# Altium integrated library TI Power Management Battery Management.IntLib: 949 symbols (part 27 of 62)
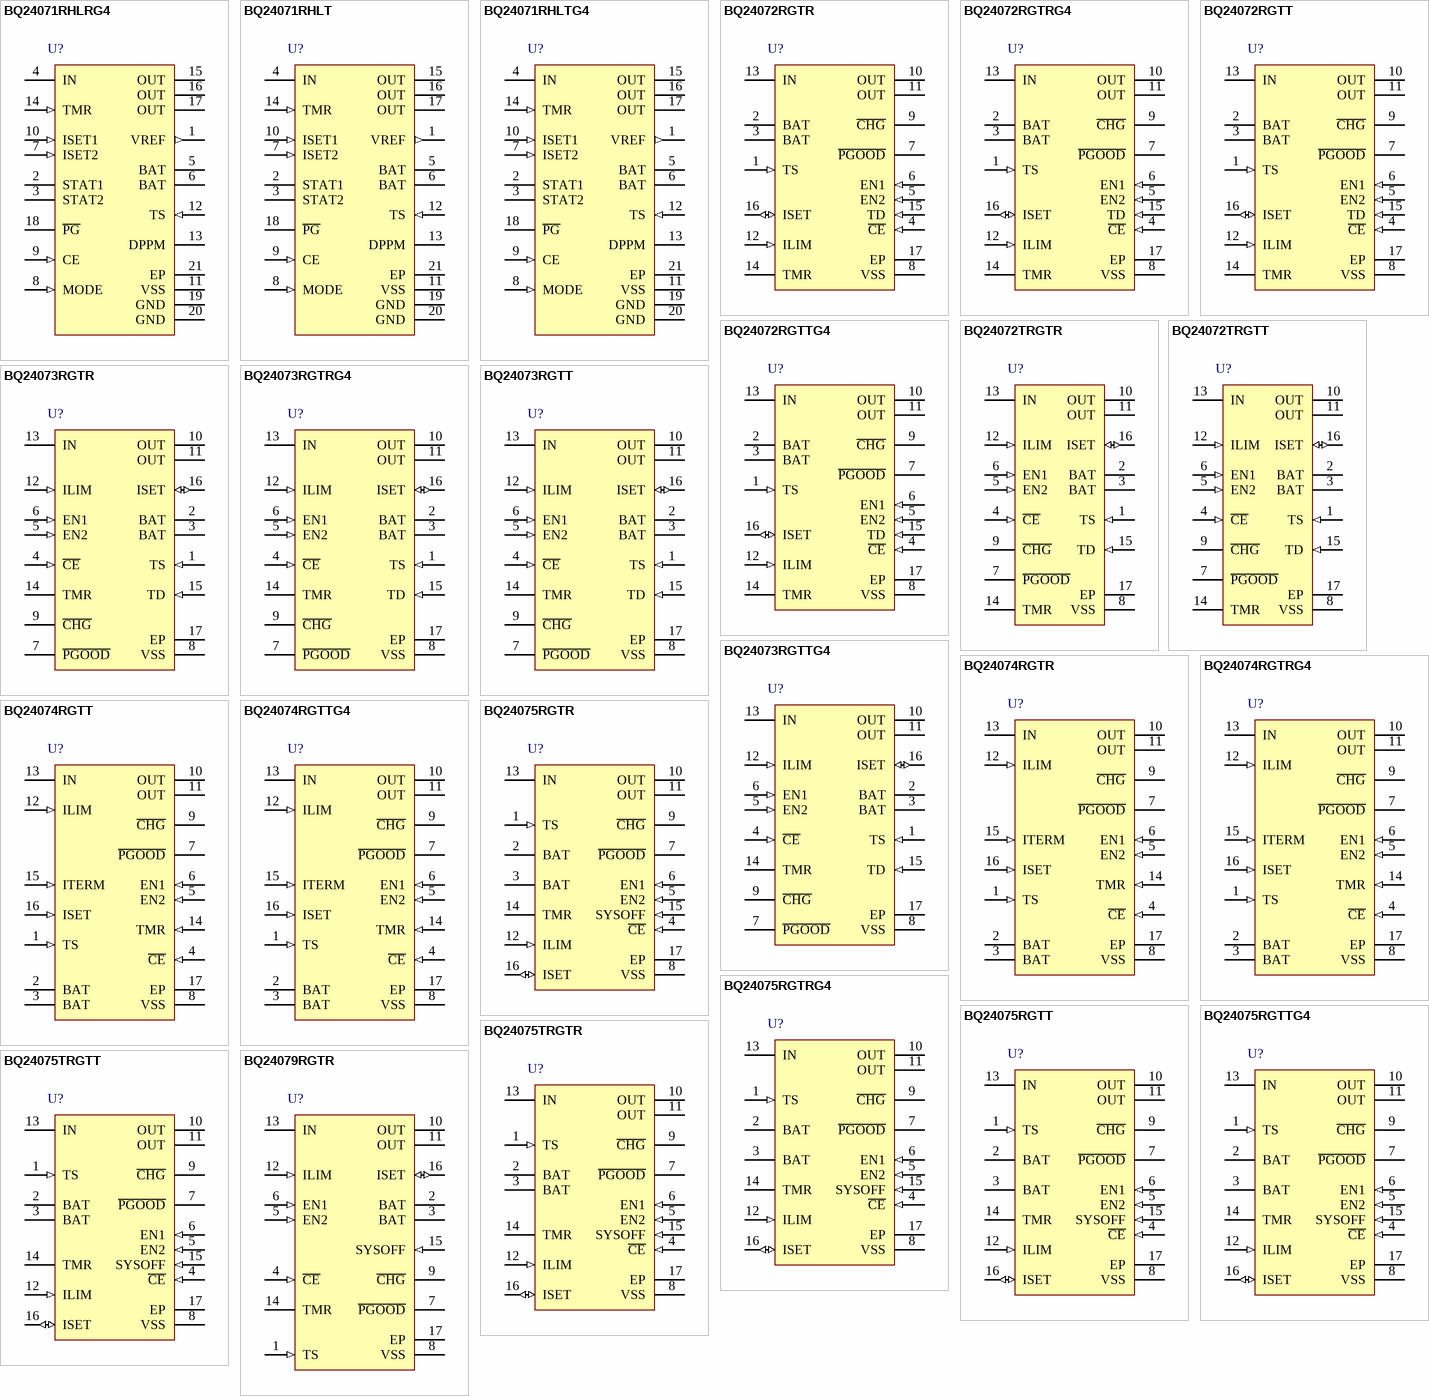
[diagram p60: symbols BQ24071RHLRG4 to BQ24079RGTR]

## BQ24075RGTRG4
designator U?
USB-Friendly Li-Ion Battery Charger and Power-Path Management IC, Vout 5.5 V, 4.3 V, -40 to 85 degC, 16-pin QFN (RGT), Green (RoHS & no Sb/Br); PartNumber: BQ24075RGTRG4; Manufacturer: Texas Instruments; Lead Acid: N; SubFamily: Battery Charge Management; Vin(Min)(V): 4.3; DatasheetVersion: SLUS810G; PackageVersion: revH, Oct-2011; PackageReference: RGT16-1700X1700TP; PackageDescription: 16-Pin Plastic Quad Flat No-Lead, 3 x 3 mm Body, 0.5 mm Pitch, 1.7 x 1.7 mm Exposed Pad; Supplier 1: Digi-Key; Supplier Part Number 1: BQ24075RGTRG4-ND; Supplier 2: Mouser; Supplier Part Number 2: 595-BQ24075RGTRG4; Eco-Plan: Green (RoHS & no Sb/Br); Li-Ion: N; Li-Polymer: N; NiCd: N; NiMH: N; Over Voltage Protection: N; Mounting Technology: Surface Mount; Code_JEDEC: MO-220; ComponentLink1Description: Datasheet; ComponentLink1URL: http://www.ti.com/general/docs/lit/getliterature.tsp?genericPartNumber=BQ24075&fileType=pdf
footprint RGT16-1700X1700TP (QFN, 16-Leads, Body 3x3mm, Pitch 0.5mm, Thermal Pad 1.7x1.7mm, TI Recommended)
pins: 1 TS (in) "External NTC Thermistor Input. Connect the TS input to the NTC thermistor in the battery pack. TS monitors a 10kohm NTC thermistor. For applications that do not utilize the TS function, connect a 10kohm fixed resistor from (See Datasheet)", 2 BAT (power) "Charge Power Stage Output and Battery Voltage Sense Input. Connect BAT to the positive terminal of the battery. Bypass BAT to VSS with a 4.7 uF to 47 uF ceramic capacitor.", 3 BAT (power) "Charge Power Stage Output and Battery Voltage Sense Input. Connect BAT to the positive terminal of the battery. Bypass BAT to VSS with a 4.7 uF to 47 uF ceramic capacitor.", 4 ~{CE} (in) "Charge Enable Active-Low Input. Connect C\E\ to a high logic level to place the battery charger in standby mode. In standby mode, OUT is active and battery supplement mode is still available. Connect C\E\ to a low logic (See Datasheet)", 5 EN2 (in) "Input Current Limit Configuration Inputs. Use EN2 control the maximum input current and enable USB compliance. See Table 2 for the description of the operation states. EN2 are internally pulled down with ?285 kohm. Do not (See Datasheet)", 6 EN1 (in) "Input Current Limit Configuration Inputs. Use EN1 control the maximum input current and enable USB compliance. See Table 2 for the description of the operation states. EN1 are internally pulled down with ?285 kohm. Do not (See Datasheet)", 7 ~{PGOOD} (hiz) "Open-drain Power Good Status Indication Output. P\G\O\O\D\ pulls to VSS when a valid input source is detected. P\G\O\O\D\ is high-impedance when the input power is not within specified limits. Connect P\G\O\O\D\ to the (See Datasheet)", 8 VSS (power) "Ground. Connect to the thermal pad and to the ground rail of the circuit.", 9 ~{CHG} (hiz) "Open-Drain Charging Status Indication Output. C\H\G\ pulls to VSS when the battery is charging. C\H\G\ is high impedance when charging is complete and when charger is disabled. Connect C\H\G\ to the desired logic voltage (See Datasheet)", 10 OUT (power) "System Supply Output. OUT provides a regulated output when the input is below the OVP threshold and above the regulation voltage. When the input is out of the operation range, OUT is connected to VBAT except when SYSOFF is (See Datasheet)", 11 OUT (power) "System Supply Output. OUT provides a regulated output when the input is below the OVP threshold and above the regulation voltage. When the input is out of the operation range, OUT is connected to VBAT except when SYSOFF is (See Datasheet)", 12 ILIM (in) "Adjustable Current Limit Programming Input. Connect a 1100 ohm to 8 kohm resistor from ILIM to VSS to program the maximum input current (EN2=1, EN1=0). The input current includes the system load and the battery charge (See Datasheet)", 13 IN (power) "Input Power Connection. Connect IN to the external DC supply (AC adapter or USB port). The input operating range is 4.35V to 6.6V (bq24072, bq24073, bq24075, and bq24079) or 4.35V to 10.5V (bq23074). The input can accept (See Datasheet)", 14 TMR "Timer Programming Input. TMR controls the pre-charge and fast-charge safety timers. Connect TMR to VSS to disable all safety timers. Connect a 18 kohm to 72 kohm resistor between TMR and VSS to program the timers a desired (See Datasheet)", 15 SYSOFF (in) "System Enable Input. Connect SYSOFF high to turn off the FET connecting the battery to the system output. When an adapter is connected, charging is also disabled. Connect SYSOFF low for normal operation. SYSOFF is internally (See Datasheet)", 16 ISET (io) "Fast Charge Current Programming Input. Connect a 590 ohm to 3 kohm resistor from ISET to VSS to program the fast charge current level. Charging is disabled if ISET is left unconnected. While charging, the voltage at ISET (See Datasheet)", 17 EP (power) "There is an internal electrical connection between the exposed thermal pad and the VSS pin of the device. The thermal pad must be connected to the same potential as the VSS pin on the printed circuit board. Do not use the (See Datasheet)"

## BQ24075RGTT
designator U?
USB-Friendly Li-Ion Battery Charger and Power-Path Management IC, Vout 5.5 V, 4.3 V, -40 to 85 degC, 16-pin QFN (RGT), Green (RoHS & no Sb/Br); PartNumber: BQ24075RGTT; Manufacturer: Texas Instruments; Lead Acid: N; SubFamily: Battery Charge Management; Vin(Min)(V): 4.3; DatasheetVersion: SLUS810G; PackageVersion: revH, Oct-2011; PackageReference: RGT16-1700X1700TP; PackageDescription: 16-Pin Plastic Quad Flat No-Lead, 3 x 3 mm Body, 0.5 mm Pitch, 1.7 x 1.7 mm Exposed Pad; Supplier 1: Digi-Key; Supplier Part Number 1: 296-23840-2-ND; Supplier 2: Digi-Key; Supplier Part Number 2: 296-23840-1-ND; Supplier 3: Digi-Key; Supplier Part Number 3: 296-23840-6-ND; Supplier 4: Farnell; Supplier Part Number 4: 1754755; Supplier 5: Newark; Supplier Part Number 5: 31P7536; Supplier 6: Mouser; Supplier Part Number 6: 595-BQ24075RGTT; Eco-Plan: Green (RoHS & no Sb/Br); Li-Ion: N; Li-Polymer: N; NiCd: N; NiMH: N; Over Voltage Protection: N; Mounting Technology: Surface Mount; Code_JEDEC: MO-220; ComponentLink1Description: Datasheet; ComponentLink1URL: http://www.ti.com/general/docs/lit/getliterature.tsp?genericPartNumber=BQ24075&fileType=pdf
footprint RGT16-1700X1700TP (QFN, 16-Leads, Body 3x3mm, Pitch 0.5mm, Thermal Pad 1.7x1.7mm, TI Recommended)
pins: 1 TS (in) "External NTC Thermistor Input. Connect the TS input to the NTC thermistor in the battery pack. TS monitors a 10kohm NTC thermistor. For applications that do not utilize the TS function, connect a 10kohm fixed resistor from (See Datasheet)", 2 BAT (power) "Charge Power Stage Output and Battery Voltage Sense Input. Connect BAT to the positive terminal of the battery. Bypass BAT to VSS with a 4.7 uF to 47 uF ceramic capacitor.", 3 BAT (power) "Charge Power Stage Output and Battery Voltage Sense Input. Connect BAT to the positive terminal of the battery. Bypass BAT to VSS with a 4.7 uF to 47 uF ceramic capacitor.", 4 ~{CE} (in) "Charge Enable Active-Low Input. Connect C\E\ to a high logic level to place the battery charger in standby mode. In standby mode, OUT is active and battery supplement mode is still available. Connect C\E\ to a low logic (See Datasheet)", 5 EN2 (in) "Input Current Limit Configuration Inputs. Use EN2 control the maximum input current and enable USB compliance. See Table 2 for the description of the operation states. EN2 are internally pulled down with ?285 kohm. Do not (See Datasheet)", 6 EN1 (in) "Input Current Limit Configuration Inputs. Use EN1 control the maximum input current and enable USB compliance. See Table 2 for the description of the operation states. EN1 are internally pulled down with ?285 kohm. Do not (See Datasheet)", 7 ~{PGOOD} (hiz) "Open-drain Power Good Status Indication Output. P\G\O\O\D\ pulls to VSS when a valid input source is detected. P\G\O\O\D\ is high-impedance when the input power is not within specified limits. Connect P\G\O\O\D\ to the (See Datasheet)", 8 VSS (power) "Ground. Connect to the thermal pad and to the ground rail of the circuit.", 9 ~{CHG} (hiz) "Open-Drain Charging Status Indication Output. C\H\G\ pulls to VSS when the battery is charging. C\H\G\ is high impedance when charging is complete and when charger is disabled. Connect C\H\G\ to the desired logic voltage (See Datasheet)", 10 OUT (power) "System Supply Output. OUT provides a regulated output when the input is below the OVP threshold and above the regulation voltage. When the input is out of the operation range, OUT is connected to VBAT except when SYSOFF is (See Datasheet)", 11 OUT (power) "System Supply Output. OUT provides a regulated output when the input is below the OVP threshold and above the regulation voltage. When the input is out of the operation range, OUT is connected to VBAT except when SYSOFF is (See Datasheet)", 12 ILIM (in) "Adjustable Current Limit Programming Input. Connect a 1100 ohm to 8 kohm resistor from ILIM to VSS to program the maximum input current (EN2=1, EN1=0). The input current includes the system load and the battery charge (See Datasheet)", 13 IN (power) "Input Power Connection. Connect IN to the external DC supply (AC adapter or USB port). The input operating range is 4.35V to 6.6V (bq24072, bq24073, bq24075, and bq24079) or 4.35V to 10.5V (bq23074). The input can accept (See Datasheet)", 14 TMR "Timer Programming Input. TMR controls the pre-charge and fast-charge safety timers. Connect TMR to VSS to disable all safety timers. Connect a 18 kohm to 72 kohm resistor between TMR and VSS to program the timers a desired (See Datasheet)", 15 SYSOFF (in) "System Enable Input. Connect SYSOFF high to turn off the FET connecting the battery to the system output. When an adapter is connected, charging is also disabled. Connect SYSOFF low for normal operation. SYSOFF is internally (See Datasheet)", 16 ISET (io) "Fast Charge Current Programming Input. Connect a 590 ohm to 3 kohm resistor from ISET to VSS to program the fast charge current level. Charging is disabled if ISET is left unconnected. While charging, the voltage at ISET (See Datasheet)", 17 EP (power) "There is an internal electrical connection between the exposed thermal pad and the VSS pin of the device. The thermal pad must be connected to the same potential as the VSS pin on the printed circuit board. Do not use the (See Datasheet)"

## BQ24075RGTTG4
designator U?
USB-Friendly Li-Ion Battery Charger and Power-Path Management IC, Vout 5.5 V, 4.3 V, -40 to 85 degC, 16-pin QFN (RGT), Green (RoHS & no Sb/Br); PartNumber: BQ24075RGTTG4; Manufacturer: Texas Instruments; Lead Acid: N; SubFamily: Battery Charge Management; Vin(Min)(V): 4.3; DatasheetVersion: SLUS810G; PackageVersion: revH, Oct-2011; PackageReference: RGT16-1700X1700TP; PackageDescription: 16-Pin Plastic Quad Flat No-Lead, 3 x 3 mm Body, 0.5 mm Pitch, 1.7 x 1.7 mm Exposed Pad; Supplier 1: Digi-Key; Supplier Part Number 1: BQ24075RGTTG4-ND; Supplier 2: Mouser; Supplier Part Number 2: 595-BQ24075RGTTG4; Eco-Plan: Green (RoHS & no Sb/Br); Li-Ion: N; Li-Polymer: N; NiCd: N; NiMH: N; Over Voltage Protection: N; Mounting Technology: Surface Mount; Code_JEDEC: MO-220; ComponentLink1Description: Datasheet; ComponentLink1URL: http://www.ti.com/general/docs/lit/getliterature.tsp?genericPartNumber=BQ24075&fileType=pdf
footprint RGT16-1700X1700TP (QFN, 16-Leads, Body 3x3mm, Pitch 0.5mm, Thermal Pad 1.7x1.7mm, TI Recommended)
pins: 1 TS (in) "External NTC Thermistor Input. Connect the TS input to the NTC thermistor in the battery pack. TS monitors a 10kohm NTC thermistor. For applications that do not utilize the TS function, connect a 10kohm fixed resistor from (See Datasheet)", 2 BAT (power) "Charge Power Stage Output and Battery Voltage Sense Input. Connect BAT to the positive terminal of the battery. Bypass BAT to VSS with a 4.7 uF to 47 uF ceramic capacitor.", 3 BAT (power) "Charge Power Stage Output and Battery Voltage Sense Input. Connect BAT to the positive terminal of the battery. Bypass BAT to VSS with a 4.7 uF to 47 uF ceramic capacitor.", 4 ~{CE} (in) "Charge Enable Active-Low Input. Connect C\E\ to a high logic level to place the battery charger in standby mode. In standby mode, OUT is active and battery supplement mode is still available. Connect C\E\ to a low logic (See Datasheet)", 5 EN2 (in) "Input Current Limit Configuration Inputs. Use EN2 control the maximum input current and enable USB compliance. See Table 2 for the description of the operation states. EN2 are internally pulled down with ?285 kohm. Do not (See Datasheet)", 6 EN1 (in) "Input Current Limit Configuration Inputs. Use EN1 control the maximum input current and enable USB compliance. See Table 2 for the description of the operation states. EN1 are internally pulled down with ?285 kohm. Do not (See Datasheet)", 7 ~{PGOOD} (hiz) "Open-drain Power Good Status Indication Output. P\G\O\O\D\ pulls to VSS when a valid input source is detected. P\G\O\O\D\ is high-impedance when the input power is not within specified limits. Connect P\G\O\O\D\ to the (See Datasheet)", 8 VSS (power) "Ground. Connect to the thermal pad and to the ground rail of the circuit.", 9 ~{CHG} (hiz) "Open-Drain Charging Status Indication Output. C\H\G\ pulls to VSS when the battery is charging. C\H\G\ is high impedance when charging is complete and when charger is disabled. Connect C\H\G\ to the desired logic voltage (See Datasheet)", 10 OUT (power) "System Supply Output. OUT provides a regulated output when the input is below the OVP threshold and above the regulation voltage. When the input is out of the operation range, OUT is connected to VBAT except when SYSOFF is (See Datasheet)", 11 OUT (power) "System Supply Output. OUT provides a regulated output when the input is below the OVP threshold and above the regulation voltage. When the input is out of the operation range, OUT is connected to VBAT except when SYSOFF is (See Datasheet)", 12 ILIM (in) "Adjustable Current Limit Programming Input. Connect a 1100 ohm to 8 kohm resistor from ILIM to VSS to program the maximum input current (EN2=1, EN1=0). The input current includes the system load and the battery charge (See Datasheet)", 13 IN (power) "Input Power Connection. Connect IN to the external DC supply (AC adapter or USB port). The input operating range is 4.35V to 6.6V (bq24072, bq24073, bq24075, and bq24079) or 4.35V to 10.5V (bq23074). The input can accept (See Datasheet)", 14 TMR "Timer Programming Input. TMR controls the pre-charge and fast-charge safety timers. Connect TMR to VSS to disable all safety timers. Connect a 18 kohm to 72 kohm resistor between TMR and VSS to program the timers a desired (See Datasheet)", 15 SYSOFF (in) "System Enable Input. Connect SYSOFF high to turn off the FET connecting the battery to the system output. When an adapter is connected, charging is also disabled. Connect SYSOFF low for normal operation. SYSOFF is internally (See Datasheet)", 16 ISET (io) "Fast Charge Current Programming Input. Connect a 590 ohm to 3 kohm resistor from ISET to VSS to program the fast charge current level. Charging is disabled if ISET is left unconnected. While charging, the voltage at ISET (See Datasheet)", 17 EP (power) "There is an internal electrical connection between the exposed thermal pad and the VSS pin of the device. The thermal pad must be connected to the same potential as the VSS pin on the printed circuit board. Do not use the (See Datasheet)"

## BQ24075TRGTR
designator U?
1.5 A USB-Friendly Li-Ion Battery Charger and Power-Path Management IC with 4.2 VBAT, 4.3 V, -40 to 85 degC, 16-pin QFN (RGT), Green (RoHS & no Sb/Br); PartNumber: BQ24075TRGTR; Manufacturer: Texas Instruments; Lead Acid: N; SubFamily: Battery Charge Management; Vin(Min)(V): 4.3; DatasheetVersion: SLUS937A; PackageVersion: revH, Oct-2011; PackageReference: RGT16-1700X1700TP; PackageDescription: 16-Pin Plastic Quad Flat No-Lead, 3 x 3 mm Body, 0.5 mm Pitch, 1.7 x 1.7 mm Exposed Pad; Supplier 1: Digi-Key; Supplier Part Number 1: 296-25609-2-ND; Supplier 2: Digi-Key; Supplier Part Number 2: 296-25609-1-ND; Supplier 3: Digi-Key; Supplier Part Number 3: 296-25609-6-ND; Supplier 4: Newark; Supplier Part Number 4: 63R9855; Supplier 5: Mouser; Supplier Part Number 5: 595-BQ24075TRGTR; Eco-Plan: Green (RoHS & no Sb/Br); Li-Ion: N; Li-Polymer: N; NiCd: N; NiMH: N; Over Voltage Protection: N; Mounting Technology: Surface Mount; Code_JEDEC: MO-220; ComponentLink1Description: Datasheet; ComponentLink1URL: http://www.ti.com/general/docs/lit/getliterature.tsp?genericPartNumber=BQ24075T&fileType=pdf
footprint RGT16-1700X1700TP (QFN, 16-Leads, Body 3x3mm, Pitch 0.5mm, Thermal Pad 1.7x1.7mm, TI Recommended)
pins: 1 TS (in) "External NTC Thermistor Input. Connect the TS input to the center tap of a resistor divider from VIN to GND with the NTC in parallel with the bottom resistor to monitor the NTC in the battery pack. For applications that do (See Datasheet)", 2 BAT (power) "Charger Power Stage Output and Battery Voltage Sense Input. Connect BAT to the positive terminal of the battery. Bypass BAT to VSS with a 4.7uF to 47uF ceramic capacitor.", 3 BAT (power) "Charger Power Stage Output and Battery Voltage Sense Input. Connect BAT to the positive terminal of the battery. Bypass BAT to VSS with a 4.7uF to 47uF ceramic capacitor.", 4 ~{CE} (in) "Charge Enable Active-Low Input. Connect C\E\ to a high logic level to place the battery charger in standby mode. In standby mode, OUT is active and battery supplement mode is available. Connect /CE to a low logic level to (See Datasheet)", 5 EN2 (in) "Input Current Limit Configuration Inputs. Use EN1 and En2 to control the maximum input current and enable USB compliance. See Table 1 for the description of the operation states EN1 and EN2 are internally pulled down with (See Datasheet)", 6 EN1 (in) "Input Current Limit Configuration Inputs. Use EN1 and En2 to control the maximum input current and enable USB compliance. See Table 1 for the description of the operation states EN1 and EN2 are internally pulled down with (See Datasheet)", 7 ~{PGOOD} (hiz) "Open-Drain Power Good Status Indication Output. P\G\O\O\D\ pulls to VSS when a valid input source is detected. P\G\O\O\D\ is high-impedance when the input power is not within specified limits. Connect P\G\O\O\D\ to the (See Datasheet)", 8 VSS (power) "Ground. Connect to the thermal pad and to the ground rail of the circuit.", 9 ~{CHG} (hiz) "Open-Drain Charging Status Indication Output. C\H\G\ pulls to VSS when the battery is charging. C\H\G\ is high-impedance when charging is complete or when the charger is disabled. C\H\G\ flashes to indicate a timer fault. (See Datasheet)", 10 OUT (power) "System Supply Output. OUT provides a regulated output when the input is below the OVP threshold and above the regulation voltage. When the input is out of the operation range, OUT is connected to VBAT except when SYSOFF is (See Datasheet)", 11 OUT (power) "System Supply Output. OUT provides a regulated output when the input is below the OVP threshold and above the regulation voltage. When the input is out of the operation range, OUT is connected to VBAT except when SYSOFF is (See Datasheet)", 12 ILIM (in) "Adjustable Current Limit Programming Input. Connect a 1.07 k ohm to 7.5 k ohm resistor from ILIM to VSS to program the maximum input current (EN2=1, EN1=0). The input current includes the system load and the battery charge (See Datasheet)", 13 IN (power) "Input Power Connection. Connect IN to the external DC supply (AC adapter or USB port). The input operating range is 4.35V to 6.6V. The input accepts voltages up to 26V without damage, but operation is suspended. Bypass IN to (See Datasheet)", 14 TMR "Timer Programming Input. TMR controls the pre-charge and fast-charge safety timers.Connect TMR to VSS to disable all safety timers. Connect a 18k ohm to 72k ohm resistor between TMR and VSS to program the timers to a desired (See Datasheet)", 15 SYSOFF (in) "System Enable Input. Connect SYSOFF high to turn off the FET connecting the battery to the system output. When an adapter is connected, charge is also disabled. Connect SYSOFF low for normal operation. SYSOFF is internally (See Datasheet)", 16 ISET (io) "Fast Charge Current Programming Input. Connect a 590 ohm to 3 k ohm resistor from ISET to VSS to program the fast charge current level. Charging is disabled if ISET is left unconnected. While charging, the voltage ISET (See Datasheet)", 17 EP (power) "There is an internal electrical connection between the exposed thermal pad and the VSS pin of the device. The thermal pad must be connected to the same potential as the VSS pin on the printed circuit board. Do not use the (See Datasheet)"

## BQ24075TRGTT
designator U?
1.5 A USB-Friendly Li-Ion Battery Charger and Power-Path Management IC with 4.2 VBAT, 4.3 V, -40 to 85 degC, 16-pin QFN (RGT), Green (RoHS & no Sb/Br); PartNumber: BQ24075TRGTT; Manufacturer: Texas Instruments; Lead Acid: N; SubFamily: Battery Charge Management; Vin(Min)(V): 4.3; DatasheetVersion: SLUS937A; PackageVersion: revH, Oct-2011; PackageReference: RGT16-1700X1700TP; PackageDescription: 16-Pin Plastic Quad Flat No-Lead, 3 x 3 mm Body, 0.5 mm Pitch, 1.7 x 1.7 mm Exposed Pad; Supplier 1: Digi-Key; Supplier Part Number 1: 296-32025-2-ND; Supplier 2: Digi-Key; Supplier Part Number 2: 296-32025-1-ND; Supplier 3: Digi-Key; Supplier Part Number 3: 296-32025-6-ND; Supplier 4: Newark; Supplier Part Number 4: 63R9856; Supplier 5: Mouser; Supplier Part Number 5: 595-BQ24075TRGTT; Eco-Plan: Green (RoHS & no Sb/Br); Li-Ion: N; Li-Polymer: N; NiCd: N; NiMH: N; Over Voltage Protection: N; Mounting Technology: Surface Mount; Code_JEDEC: MO-220; ComponentLink1Description: Datasheet; ComponentLink1URL: http://www.ti.com/general/docs/lit/getliterature.tsp?genericPartNumber=BQ24075T&fileType=pdf
footprint RGT16-1700X1700TP (QFN, 16-Leads, Body 3x3mm, Pitch 0.5mm, Thermal Pad 1.7x1.7mm, TI Recommended)
pins: 1 TS (in) "External NTC Thermistor Input. Connect the TS input to the center tap of a resistor divider from VIN to GND with the NTC in parallel with the bottom resistor to monitor the NTC in the battery pack. For applications that do (See Datasheet)", 2 BAT (power) "Charger Power Stage Output and Battery Voltage Sense Input. Connect BAT to the positive terminal of the battery. Bypass BAT to VSS with a 4.7uF to 47uF ceramic capacitor.", 3 BAT (power) "Charger Power Stage Output and Battery Voltage Sense Input. Connect BAT to the positive terminal of the battery. Bypass BAT to VSS with a 4.7uF to 47uF ceramic capacitor.", 4 ~{CE} (in) "Charge Enable Active-Low Input. Connect C\E\ to a high logic level to place the battery charger in standby mode. In standby mode, OUT is active and battery supplement mode is available. Connect /CE to a low logic level to (See Datasheet)", 5 EN2 (in) "Input Current Limit Configuration Inputs. Use EN1 and En2 to control the maximum input current and enable USB compliance. See Table 1 for the description of the operation states EN1 and EN2 are internally pulled down with (See Datasheet)", 6 EN1 (in) "Input Current Limit Configuration Inputs. Use EN1 and En2 to control the maximum input current and enable USB compliance. See Table 1 for the description of the operation states EN1 and EN2 are internally pulled down with (See Datasheet)", 7 ~{PGOOD} (hiz) "Open-Drain Power Good Status Indication Output. P\G\O\O\D\ pulls to VSS when a valid input source is detected. P\G\O\O\D\ is high-impedance when the input power is not within specified limits. Connect P\G\O\O\D\ to the (See Datasheet)", 8 VSS (power) "Ground. Connect to the thermal pad and to the ground rail of the circuit.", 9 ~{CHG} (hiz) "Open-Drain Charging Status Indication Output. C\H\G\ pulls to VSS when the battery is charging. C\H\G\ is high-impedance when charging is complete or when the charger is disabled. C\H\G\ flashes to indicate a timer fault. (See Datasheet)", 10 OUT (power) "System Supply Output. OUT provides a regulated output when the input is below the OVP threshold and above the regulation voltage. When the input is out of the operation range, OUT is connected to VBAT except when SYSOFF is (See Datasheet)", 11 OUT (power) "System Supply Output. OUT provides a regulated output when the input is below the OVP threshold and above the regulation voltage. When the input is out of the operation range, OUT is connected to VBAT except when SYSOFF is (See Datasheet)", 12 ILIM (in) "Adjustable Current Limit Programming Input. Connect a 1.07 k ohm to 7.5 k ohm resistor from ILIM to VSS to program the maximum input current (EN2=1, EN1=0). The input current includes the system load and the battery charge (See Datasheet)", 13 IN (power) "Input Power Connection. Connect IN to the external DC supply (AC adapter or USB port). The input operating range is 4.35V to 6.6V. The input accepts voltages up to 26V without damage, but operation is suspended. Bypass IN to (See Datasheet)", 14 TMR "Timer Programming Input. TMR controls the pre-charge and fast-charge safety timers.Connect TMR to VSS to disable all safety timers. Connect a 18k ohm to 72k ohm resistor between TMR and VSS to program the timers to a desired (See Datasheet)", 15 SYSOFF (in) "System Enable Input. Connect SYSOFF high to turn off the FET connecting the battery to the system output. When an adapter is connected, charge is also disabled. Connect SYSOFF low for normal operation. SYSOFF is internally (See Datasheet)", 16 ISET (io) "Fast Charge Current Programming Input. Connect a 590 ohm to 3 k ohm resistor from ISET to VSS to program the fast charge current level. Charging is disabled if ISET is left unconnected. While charging, the voltage ISET (See Datasheet)", 17 EP (power) "There is an internal electrical connection between the exposed thermal pad and the VSS pin of the device. The thermal pad must be connected to the same potential as the VSS pin on the printed circuit board. Do not use the (See Datasheet)"

## BQ24079RGTR
designator U?
1.2 A USB-Friendly Li-Ion Battery Charger and Power-Path Management IC with 4.1 VBAT, 4.3 V, -40 to 85 degC, 16-pin QFN (RGT), Green (RoHS & no Sb/Br); PartNumber: BQ24079RGTR; Manufacturer: Texas Instruments; Lead Acid: N; SubFamily: Battery Charge Management; Vin(Min)(V): 4.3; DatasheetVersion: SLUS810G; PackageVersion: revH, Oct-2011; PackageReference: RGT16-1700X1700TP; PackageDescription: 16-Pin Plastic Quad Flat No-Lead, 3 x 3 mm Body, 0.5 mm Pitch, 1.7 x 1.7 mm Exposed Pad; Supplier 1: Digi-Key; Supplier Part Number 1: 296-24815-2-ND; Supplier 2: Digi-Key; Supplier Part Number 2: 296-24815-1-ND; Supplier 3: Digi-Key; Supplier Part Number 3: 296-24815-6-ND; Supplier 4: Newark; Supplier Part Number 4: 25R0426; Supplier 5: Mouser; Supplier Part Number 5: 595-BQ24079RGTR; Eco-Plan: Green (RoHS & no Sb/Br); Li-Ion: N; Li-Polymer: N; NiCd: N; NiMH: N; Over Voltage Protection: N; Mounting Technology: Surface Mount; Code_JEDEC: MO-220; ComponentLink1Description: Datasheet; ComponentLink1URL: http://www.ti.com/general/docs/lit/getliterature.tsp?genericPartNumber=BQ24079&fileType=pdf
footprint RGT16-1700X1700TP (QFN, 16-Leads, Body 3x3mm, Pitch 0.5mm, Thermal Pad 1.7x1.7mm, TI Recommended)
pins: 1 TS (in) "External NTC Thermistor Input. Connect the TS input to the NTC thermistor in the battery pack. TS monitors a 10k ohm NTC thermistor. For applications that do not utilize the TS function, connect a 10k ohm fixed resistor from (See Datasheet)", 2 BAT (power) "Charger Power Stage Output and Battery Voltage Sense Input. Connect BAT to the positive terminal of the battery. Bypass BAT to VSS with a 4.7  uF to 47  uF ceramic capacitor.", 3 BAT (power) "Charger Power Stage Output and Battery Voltage Sense Input. Connect BAT to the positive terminal of the battery. Bypass BAT to VSS with a 4.7  uF to 47  uF ceramic capacitor.", 4 ~{CE} (in) "Charge Enable Active-Low Input. Connect C\E\ to a high logic level to place the battery charger in standby mode. In standby mode, OUT is active and battery supplement mode is still available. Connect C\E\ to a low logic (See Datasheet)", 5 EN2 (in) "Input Current Limit Configuration Inputs. Use EN2 control the maximum input current and enable USB compliance. See Table 2 for the description of the operation states. EN2 is internally pulled down with ?285 k ohm. Do not (See Datasheet)", 6 EN1 (in) "Input Current Limit Configuration Inputs. Use EN1 control the maximum input current and enable USB compliance. See Table 2 for the description of the operation states. EN1 is internally pulled down with ?285 k ohm. Do not (See Datasheet)", 7 ~{PGOOD} (hiz) "Open-drain Power Good Status Indication Output. P\G\O\O\D\ pulls to VSS when a valid input source is detected. P\G\O\O\D\ is high-impedance when the input power is not within specified limits. Connect P\G\O\O\D\ to the (See Datasheet)", 8 VSS (power) "Ground. Connect to the thermal pad and to the ground rail of the circuit.", 9 ~{CHG} (hiz) "Open-Drain Charging Status Indication Output. C\H\G\ pulls to VSS when the battery is charging. C\H\G\ is high impedance when charging is complete and when charger is disabled. Connect C\H\G\ to the desired logic voltage (See Datasheet)", 10 OUT (power) "System Supply Output. OUT provides a regulated output when the input is below the OVP threshold and above the regulation voltage. When the input is out of the operation range, OUT is connected to VBAT except when SYSOFF is (See Datasheet)", 11 OUT (power) "System Supply Output. OUT provides a regulated output when the input is below the OVP threshold and above the regulation voltage. When the input is out of the operation range, OUT is connected to VBAT except when SYSOFF is (See Datasheet)", 12 ILIM (in) "Adjustable Current Limit Programming Input. Connect a 1100 Ohm to 8 k ohm resistor from ILIM to VSS to program the maximum input current (EN2=1, EN1=0). The input current includes the system load and the battery charge (See Datasheet)", 13 IN (power) "Input Power Connection. Connect IN to the external DC supply (AC adapter or USB port). The input operating range is 4.35V to 6.6V (bq24072, bq24073, bq24075, and bq24079) or 4.35V to 10.5V (bq23074). The input can accept (See Datasheet)", 14 TMR "Timer Programming Input. TMR controls the pre-charge and fast-charge safety timers. Connect TMR to VSS to disable all safety timers. Connect a 18 k ohm to 72 k ohm resistor between TMR and VSS to program the timers a desired (See Datasheet)", 15 SYSOFF (in) "System Enable Input. Connect SYSOFF high to turn off the FET connecting the battery to the system output. When an adapter is connected, charging is also disabled. Connect SYSOFF low for normal operation. SYSOFF is internally (See Datasheet)", 16 ISET (io) "Fast Charge Current Programming Input. Connect a 590 Ohm to 3 k ohm resistor from ISET to VSS to program the fast charge current level. Charging is disabled if ISET is left unconnected. While charging, the voltage at ISET (See Datasheet)", 17 EP (power) "There is an internal electrical connection between the exposed thermal pad and the VSS pin of the device. The thermal pad must be connected to the same potential as the VSS pin on the printed circuit board. Do not use the (See Datasheet)"

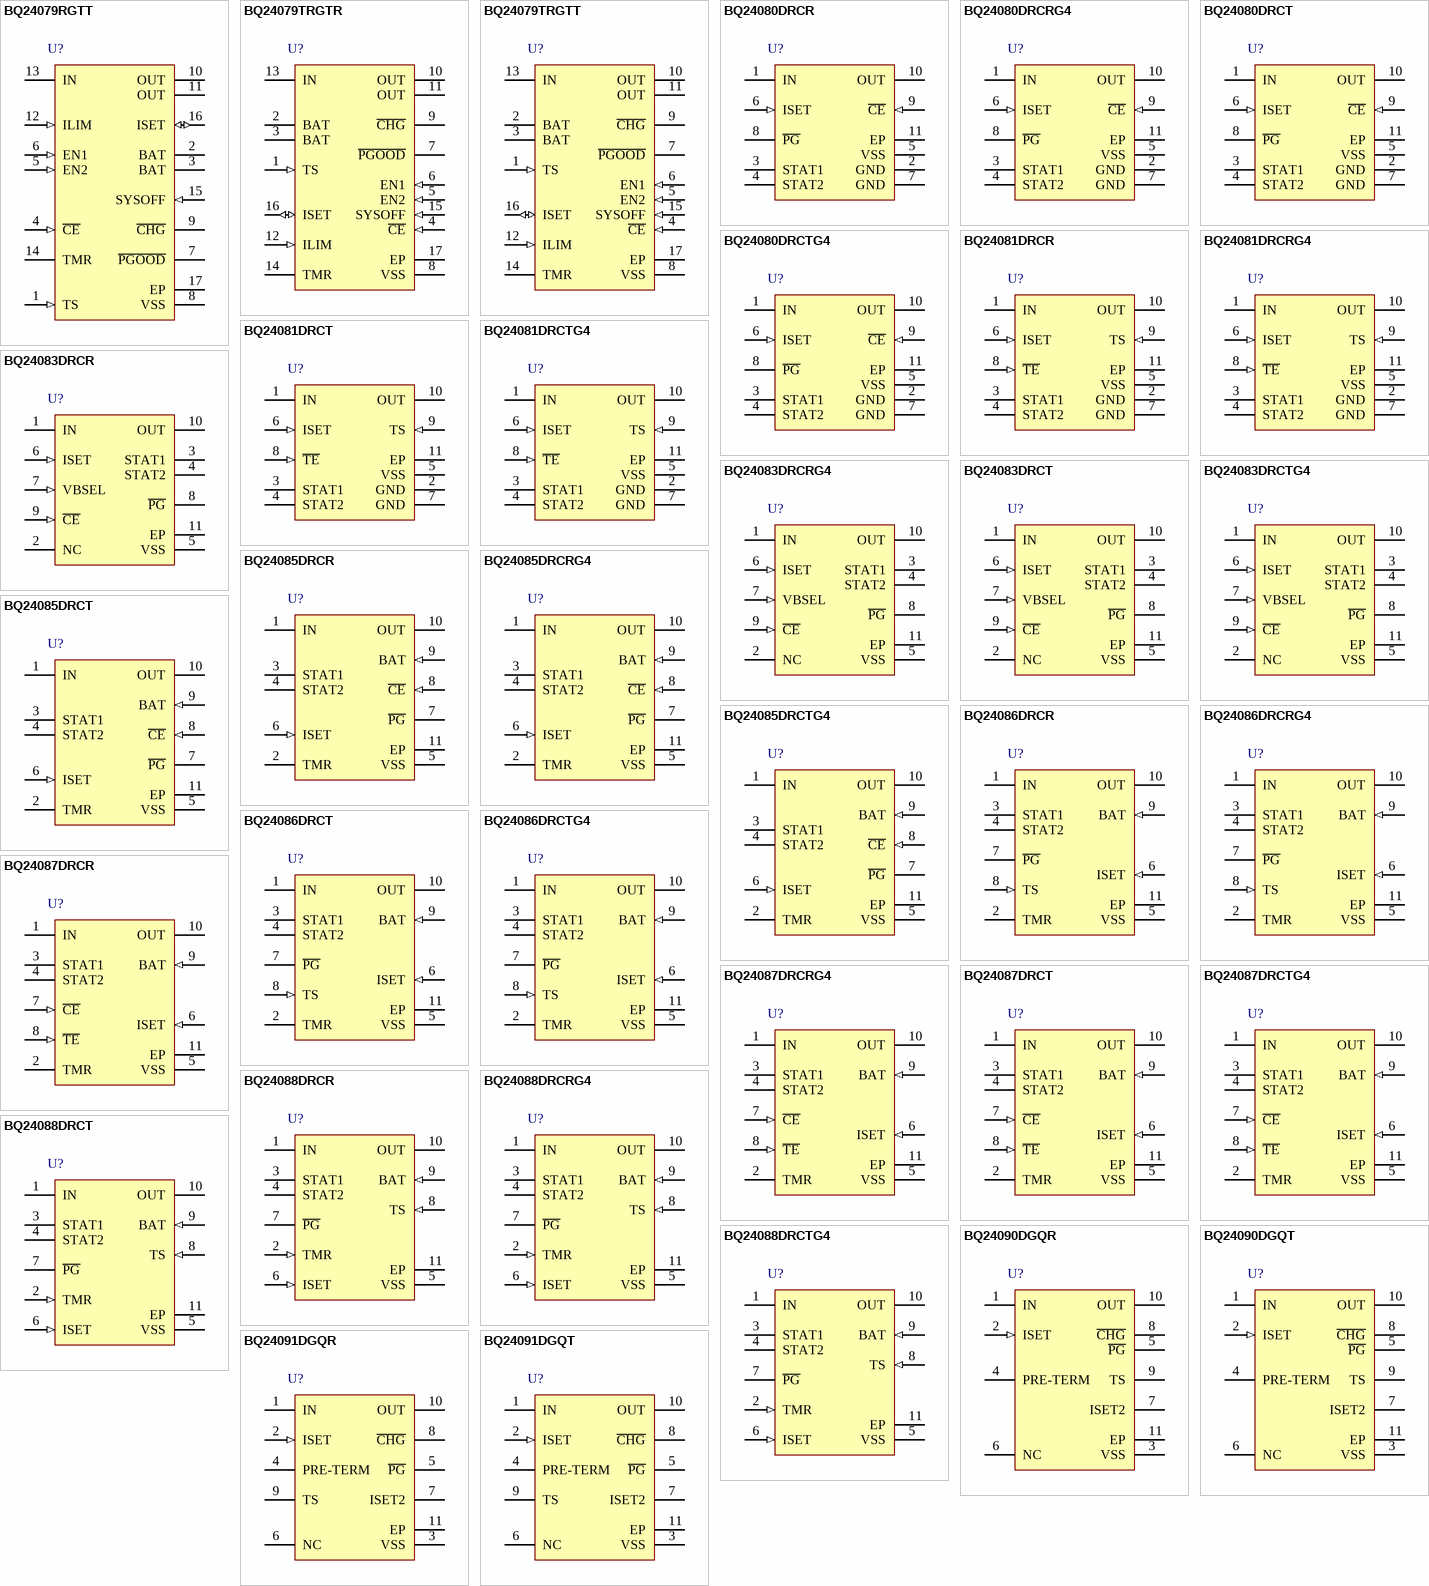
[diagram p16: symbols BQ24079RGTT to BQ24091DGQT]

## BQ24079RGTT
designator U?
1.2 A USB-Friendly Li-Ion Battery Charger and Power-Path Management IC with 4.1 VBAT, 4.3 V, -40 to 85 degC, 16-pin QFN (RGT), Green (RoHS & no Sb/Br); PartNumber: BQ24079RGTT; Manufacturer: Texas Instruments; Lead Acid: N; SubFamily: Battery Charge Management; Vin(Min)(V): 4.3; DatasheetVersion: SLUS810G; PackageVersion: revH, Oct-2011; PackageReference: RGT16-1700X1700TP; PackageDescription: 16-Pin Plastic Quad Flat No-Lead, 3 x 3 mm Body, 0.5 mm Pitch, 1.7 x 1.7 mm Exposed Pad; Supplier 1: Digi-Key; Supplier Part Number 1: BQ24079RGTT-ND; Supplier 2: Newark; Supplier Part Number 2: 25R0427; Supplier 3: Mouser; Supplier Part Number 3: 595-BQ24079RGTT; Eco-Plan: Green (RoHS & no Sb/Br); Li-Ion: N; Li-Polymer: N; NiCd: N; NiMH: N; Over Voltage Protection: N; Mounting Technology: Surface Mount; Code_JEDEC: MO-220; ComponentLink1Description: Datasheet; ComponentLink1URL: http://www.ti.com/general/docs/lit/getliterature.tsp?genericPartNumber=BQ24079&fileType=pdf
footprint RGT16-1700X1700TP (QFN, 16-Leads, Body 3x3mm, Pitch 0.5mm, Thermal Pad 1.7x1.7mm, TI Recommended)
pins: 1 TS (in) "External NTC Thermistor Input. Connect the TS input to the NTC thermistor in the battery pack. TS monitors a 10k ohm NTC thermistor. For applications that do not utilize the TS function, connect a 10k ohm fixed resistor from (See Datasheet)", 2 BAT (power) "Charger Power Stage Output and Battery Voltage Sense Input. Connect BAT to the positive terminal of the battery. Bypass BAT to VSS with a 4.7  uF to 47  uF ceramic capacitor.", 3 BAT (power) "Charger Power Stage Output and Battery Voltage Sense Input. Connect BAT to the positive terminal of the battery. Bypass BAT to VSS with a 4.7  uF to 47  uF ceramic capacitor.", 4 ~{CE} (in) "Charge Enable Active-Low Input. Connect C\E\ to a high logic level to place the battery charger in standby mode. In standby mode, OUT is active and battery supplement mode is still available. Connect C\E\ to a low logic (See Datasheet)", 5 EN2 (in) "Input Current Limit Configuration Inputs. Use EN2 control the maximum input current and enable USB compliance. See Table 2 for the description of the operation states. EN2 is internally pulled down with ?285 k ohm. Do not (See Datasheet)", 6 EN1 (in) "Input Current Limit Configuration Inputs. Use EN1 control the maximum input current and enable USB compliance. See Table 2 for the description of the operation states. EN1 is internally pulled down with ?285 k ohm. Do not (See Datasheet)", 7 ~{PGOOD} (hiz) "Open-drain Power Good Status Indication Output. P\G\O\O\D\ pulls to VSS when a valid input source is detected. P\G\O\O\D\ is high-impedance when the input power is not within specified limits. Connect P\G\O\O\D\ to the (See Datasheet)", 8 VSS (power) "Ground. Connect to the thermal pad and to the ground rail of the circuit.", 9 ~{CHG} (hiz) "Open-Drain Charging Status Indication Output. C\H\G\ pulls to VSS when the battery is charging. C\H\G\ is high impedance when charging is complete and when charger is disabled. Connect C\H\G\ to the desired logic voltage (See Datasheet)", 10 OUT (power) "System Supply Output. OUT provides a regulated output when the input is below the OVP threshold and above the regulation voltage. When the input is out of the operation range, OUT is connected to VBAT except when SYSOFF is (See Datasheet)", 11 OUT (power) "System Supply Output. OUT provides a regulated output when the input is below the OVP threshold and above the regulation voltage. When the input is out of the operation range, OUT is connected to VBAT except when SYSOFF is (See Datasheet)", 12 ILIM (in) "Adjustable Current Limit Programming Input. Connect a 1100 Ohm to 8 k ohm resistor from ILIM to VSS to program the maximum input current (EN2=1, EN1=0). The input current includes the system load and the battery charge (See Datasheet)", 13 IN (power) "Input Power Connection. Connect IN to the external DC supply (AC adapter or USB port). The input operating range is 4.35V to 6.6V (bq24072, bq24073, bq24075, and bq24079) or 4.35V to 10.5V (bq23074). The input can accept (See Datasheet)", 14 TMR "Timer Programming Input. TMR controls the pre-charge and fast-charge safety timers. Connect TMR to VSS to disable all safety timers. Connect a 18 k ohm to 72 k ohm resistor between TMR and VSS to program the timers a desired (See Datasheet)", 15 SYSOFF (in) "System Enable Input. Connect SYSOFF high to turn off the FET connecting the battery to the system output. When an adapter is connected, charging is also disabled. Connect SYSOFF low for normal operation. SYSOFF is internally (See Datasheet)", 16 ISET (io) "Fast Charge Current Programming Input. Connect a 590 Ohm to 3 k ohm resistor from ISET to VSS to program the fast charge current level. Charging is disabled if ISET is left unconnected. While charging, the voltage at ISET (See Datasheet)", 17 EP (power) "There is an internal electrical connection between the exposed thermal pad and the VSS pin of the device. The thermal pad must be connected to the same potential as the VSS pin on the printed circuit board. Do not use the (See Datasheet)"

## BQ24079TRGTR
designator U?
1.5 A USB-Friendly Li-Ion Battery Charger and Power-Path Management IC, 4.3 V, -40 to 85 degC, 16-pin QFN (RGT), Green (RoHS & no Sb/Br); PartNumber: BQ24079TRGTR; Manufacturer: Texas Instruments; Lead Acid: N; SubFamily: Battery Charge Management; Vin(Min)(V): 4.3; DatasheetVersion: SLUS937A; PackageVersion: revH, Oct-2011; PackageReference: RGT16-1700X1700TP; PackageDescription: 16-Pin Plastic Quad Flat No-Lead, 3 x 3 mm Body, 0.5 mm Pitch, 1.7 x 1.7 mm Exposed Pad; Supplier 1: Digi-Key; Supplier Part Number 1: 296-25610-2-ND; Supplier 2: Digi-Key; Supplier Part Number 2: 296-25610-1-ND; Supplier 3: Digi-Key; Supplier Part Number 3: 296-25610-6-ND; Supplier 4: Newark; Supplier Part Number 4: 63R9857; Supplier 5: Mouser; Supplier Part Number 5: 595-BQ24079TRGTR; Eco-Plan: Green (RoHS & no Sb/Br); Li-Ion: N; Li-Polymer: N; NiCd: N; NiMH: N; Over Voltage Protection: N; Mounting Technology: Surface Mount; Code_JEDEC: MO-220; ComponentLink1Description: Datasheet; ComponentLink1URL: http://www.ti.com/general/docs/lit/getliterature.tsp?genericPartNumber=BQ24079T&fileType=pdf
footprint RGT16-1700X1700TP (QFN, 16-Leads, Body 3x3mm, Pitch 0.5mm, Thermal Pad 1.7x1.7mm, TI Recommended)
pins: 1 TS (in) "External NTC Thermistor Input. Connect the TS input to the center tap of a resistor divider rom VIN to GND with the NTC in parallel with the bottom resistor to monitor the NTC in the battery pack. For applications that do (See Datasheet)", 2 BAT (power) "Charger Power Stage Output and Battery Voltage Sense Input. Connect BAT to the positive terminal of the battery. Bypass BAT to VSS with a 4.7uF to 47uF ceramic capacitor.", 3 BAT (power) "Charger Power Stage Output and Battery Voltage Sense Input. Connect BAT to the positive terminal of the battery. Bypass BAT to VSS with a 4.7uF to 47uF ceramic capacitor.", 4 ~{CE} (in) "Charge Enable Active-Low Input. Connect C\E\ to a high logic level to place the battery charger in standby mode. In standby mode, OUT is active and battery supplement mode is available. Connect /CE to a low logic level to (See Datasheet)", 5 EN2 (in) "Input Current Limit Configuration Inputs. Use EN1 and En2 to control the maximum input current and enable USB compliance. See Table 1 for the description of the operation states. EN1 and EN2 are internally pulled down with (See Datasheet)", 6 EN1 (in) "Input Current Limit Configuration Inputs. Use EN1 and En2 to control the maximum input current and enable USB compliance. See Table 1 for the description of the operation states. EN1 and EN2 are internally pulled down with (See Datasheet)", 7 ~{PGOOD} (hiz) "Open-Drain Power Good Status Indication Output. P\G\O\O\D\ pulls to VSS when a valid input source is detected. P\G\O\O\D\ is high-impedance when the input power is not within specified limits. Connect P\G\O\O\D\ to the (See Datasheet)", 8 VSS (power) "Ground. Connect to the thermal pad and to the ground rail of the circuit.", 9 ~{CHG} (hiz) "Open-Drain Charging Status Indication Output. C\H\G\ pulls to VSS when the battery is charging. C\H\G\ is high-impedance when charging is complete or when the charger is disabled. C\H\G\ flashes to indicate a timer fault. (See Datasheet)", 10 OUT (power) "System Supply Output. OUT provides a regulated output when the input is below the OVP threshold and above the regulation voltage. When the input is out of the operation range, OUT is connected to VBAT except when SYSOFF is (See Datasheet)", 11 OUT (power) "System Supply Output. OUT provides a regulated output when the input is below the OVP threshold and above the regulation voltage. When the input is out of the operation range, OUT is connected to VBAT except when SYSOFF is (See Datasheet)", 12 ILIM (in) "Adjustable Current Limit Programming Input. Connect a 1.07k ohm to 7.5k ohm resistor from ILIM to VSS to program the maximum input current (EN2=1, EN1=0). The input current includes the system load and the battery charge (See Datasheet)", 13 IN (power) "Input Power Connection. Connect IN to the external DC supply (AC adapter or USB port).The input operating range is 4.35V to 6.6V. The input accepts voltages up to 26V without damage, but operation is suspended. Bypass IN to (See Datasheet)", 14 TMR "Timer Programming Input. TMR controls the pre-charge and fast-charge safety timers.Connect TMR to VSS to disable all safety timers. Connect a 18k ohm to 72k ohm resistor between TMR and VSS to program the timers to a desired (See Datasheet)", 15 SYSOFF (in) "System Enable Input. Connect SYSOFF high to turn off the FET connecting the battery to the system output. When an adapter is connected, charge is also disabled. Connect SYSOFF low for normal operation. SYSOFF is internally (See Datasheet)", 16 ISET (io) "Fast Charge Current Programming Input. Connect a 590 ohm to 3 k ohm resistor from ISET to VSS to program the fast charge current level. Charging is disabled if ISET is left unconnected. While charging, the voltage ISET (See Datasheet)", 17 EP (power) "There is an internal electrical connection between the exposed thermal pad and the VSS pin of the device. The thermal pad must be connected to the same potential as the VSS pin on the printed circuit board. Do not use the (See Datasheet)"

## BQ24079TRGTT
designator U?
1.5 A USB-Friendly Li-Ion Battery Charger and Power-Path Management IC, 4.3 V, -40 to 85 degC, 16-pin QFN (RGT), Green (RoHS & no Sb/Br); PartNumber: BQ24079TRGTT; Manufacturer: Texas Instruments; Lead Acid: N; SubFamily: Battery Charge Management; Vin(Min)(V): 4.3; DatasheetVersion: SLUS937A; PackageVersion: revH, Oct-2011; PackageReference: RGT16-1700X1700TP; PackageDescription: 16-Pin Plastic Quad Flat No-Lead, 3 x 3 mm Body, 0.5 mm Pitch, 1.7 x 1.7 mm Exposed Pad; Supplier 1: Digi-Key; Supplier Part Number 1: BQ24079TRGTT-ND; Supplier 2: Newark; Supplier Part Number 2: 63R9858; Supplier 3: Mouser; Supplier Part Number 3: 595-BQ24079TRGTT; Eco-Plan: Green (RoHS & no Sb/Br); Li-Ion: N; Li-Polymer: N; NiCd: N; NiMH: N; Over Voltage Protection: N; Mounting Technology: Surface Mount; Code_JEDEC: MO-220; ComponentLink1Description: Datasheet; ComponentLink1URL: http://www.ti.com/general/docs/lit/getliterature.tsp?genericPartNumber=BQ24079T&fileType=pdf
footprint RGT16-1700X1700TP (QFN, 16-Leads, Body 3x3mm, Pitch 0.5mm, Thermal Pad 1.7x1.7mm, TI Recommended)
pins: 1 TS (in) "External NTC Thermistor Input. Connect the TS input to the center tap of a resistor divider rom VIN to GND with the NTC in parallel with the bottom resistor to monitor the NTC in the battery pack. For applications that do (See Datasheet)", 2 BAT (power) "Charger Power Stage Output and Battery Voltage Sense Input. Connect BAT to the positive terminal of the battery. Bypass BAT to VSS with a 4.7uF to 47uF ceramic capacitor.", 3 BAT (power) "Charger Power Stage Output and Battery Voltage Sense Input. Connect BAT to the positive terminal of the battery. Bypass BAT to VSS with a 4.7uF to 47uF ceramic capacitor.", 4 ~{CE} (in) "Charge Enable Active-Low Input. Connect C\E\ to a high logic level to place the battery charger in standby mode. In standby mode, OUT is active and battery supplement mode is available. Connect /CE to a low logic level to (See Datasheet)", 5 EN2 (in) "Input Current Limit Configuration Inputs. Use EN1 and En2 to control the maximum input current and enable USB compliance. See Table 1 for the description of the operation states. EN1 and EN2 are internally pulled down with (See Datasheet)", 6 EN1 (in) "Input Current Limit Configuration Inputs. Use EN1 and En2 to control the maximum input current and enable USB compliance. See Table 1 for the description of the operation states. EN1 and EN2 are internally pulled down with (See Datasheet)", 7 ~{PGOOD} (hiz) "Open-Drain Power Good Status Indication Output. P\G\O\O\D\ pulls to VSS when a valid input source is detected. P\G\O\O\D\ is high-impedance when the input power is not within specified limits. Connect P\G\O\O\D\ to the (See Datasheet)", 8 VSS (power) "Ground. Connect to the thermal pad and to the ground rail of the circuit.", 9 ~{CHG} (hiz) "Open-Drain Charging Status Indication Output. C\H\G\ pulls to VSS when the battery is charging. C\H\G\ is high-impedance when charging is complete or when the charger is disabled. C\H\G\ flashes to indicate a timer fault. (See Datasheet)", 10 OUT (power) "System Supply Output. OUT provides a regulated output when the input is below the OVP threshold and above the regulation voltage. When the input is out of the operation range, OUT is connected to VBAT except when SYSOFF is (See Datasheet)", 11 OUT (power) "System Supply Output. OUT provides a regulated output when the input is below the OVP threshold and above the regulation voltage. When the input is out of the operation range, OUT is connected to VBAT except when SYSOFF is (See Datasheet)", 12 ILIM (in) "Adjustable Current Limit Programming Input. Connect a 1.07k ohm to 7.5k ohm resistor from ILIM to VSS to program the maximum input current (EN2=1, EN1=0). The input current includes the system load and the battery charge (See Datasheet)", 13 IN (power) "Input Power Connection. Connect IN to the external DC supply (AC adapter or USB port).The input operating range is 4.35V to 6.6V. The input accepts voltages up to 26V without damage, but operation is suspended. Bypass IN to (See Datasheet)", 14 TMR "Timer Programming Input. TMR controls the pre-charge and fast-charge safety timers.Connect TMR to VSS to disable all safety timers. Connect a 18k ohm to 72k ohm resistor between TMR and VSS to program the timers to a desired (See Datasheet)", 15 SYSOFF (in) "System Enable Input. Connect SYSOFF high to turn off the FET connecting the battery to the system output. When an adapter is connected, charge is also disabled. Connect SYSOFF low for normal operation. SYSOFF is internally (See Datasheet)", 16 ISET (io) "Fast Charge Current Programming Input. Connect a 590 ohm to 3 k ohm resistor from ISET to VSS to program the fast charge current level. Charging is disabled if ISET is left unconnected. While charging, the voltage ISET (See Datasheet)", 17 EP (power) "There is an internal electrical connection between the exposed thermal pad and the VSS pin of the device. The thermal pad must be connected to the same potential as the VSS pin on the printed circuit board. Do not use the (See Datasheet)"

## BQ24080DRCR
designator U?
1-Cell Li-Ion Charger with 1 A FET, AC Present and Charge Enable, 4.5 V, -40 to 85 degC, 10-pin SON (DRC), Green (RoHS & no Sb/Br); PartNumber: BQ24080DRCR; Manufacturer: Texas Instruments; Lead Acid: N; Li-Ion: Y; SubFamily: Battery Charge Management; Vin(Min)(V): 4.5; DatasheetVersion: SLUS698E; PackageVersion: revL, Sep-2011; PackageReference: DRC10-2400X1650TP; PackageDescription: 10-Pin Plastic Small Outline No-Lead, 3 x 3 x 1 mm Body, 0.5 mm Pitch, Exposed Pad; Supplier 1: Digi-Key; Supplier Part Number 1: 296-19653-2-ND; Supplier 2: Digi-Key; Supplier Part Number 2: 296-19653-1-ND; Supplier 3: Digi-Key; Supplier Part Number 3: 296-19653-6-ND; Supplier 4: Newark; Supplier Part Number 4: 85K0182; Supplier 5: Mouser; Supplier Part Number 5: 595-BQ24080DRCR; Eco-Plan: Green (RoHS & no Sb/Br); Li-Polymer: Y; NiCd: N; NiMH: N; Over Voltage Protection: N; Mounting Technology: Surface Mount; ComponentLink1Description: Datasheet; ComponentLink1URL: http://www.ti.com/general/docs/lit/getliterature.tsp?genericPartNumber=BQ24080&fileType=pdf
footprint DRC10-2400X1650TP (SON, 10-Leads, Body 3x3mm, Pitch 0.5mm, Thermal Pad 2.4x1.65mm, TI Recommended)
pins: 1 IN (power) "Adapter dc voltage. Connect minimum 0.1-uF capacitor to VSS.", 2 GND (power) "Ground", 3 STAT1 (oc) "Charge status outputs (open-drain)", 4 STAT2 (oc) "Charge status outputs (open-drain)", 5 VSS (power) "Ground", 6 ISET (in) "Charge current. External resistor to VSS sets precharge and fast-charge current, and also the termination current value. Can be used to monitor the charge current.", 7 GND (power) "Ground", 8 ~{PG} (hiz) "Power-good status output (open-drain)", 9 ~{CE} (in) "Charge enable input (active-low)", 10 OUT (power) "Charge current output. Connect minimum 0.1-uF capacitor to VSS.", 11 EP (power) "There is an internal electrical connection between the exposed thermal pad and the VSS pin of the device. The exposed thermal pad must be connected to the same potential as the VSS pin on the printed-circuit board. Do not (See Datasheet)"